# Altium footprint library PCB2.PcbLib: 38 footprints (part 3 of 3)
Each footprint in its own frame and in the unit in brackets; x right, y up, seen from the top. Pads: shape width x height; smd on the part's side, far side on the other; paste and mask are expansions set on the pad; w line width, h text height; cw(c..) or ccw(c..) is an arc to the next point about the centre after c.
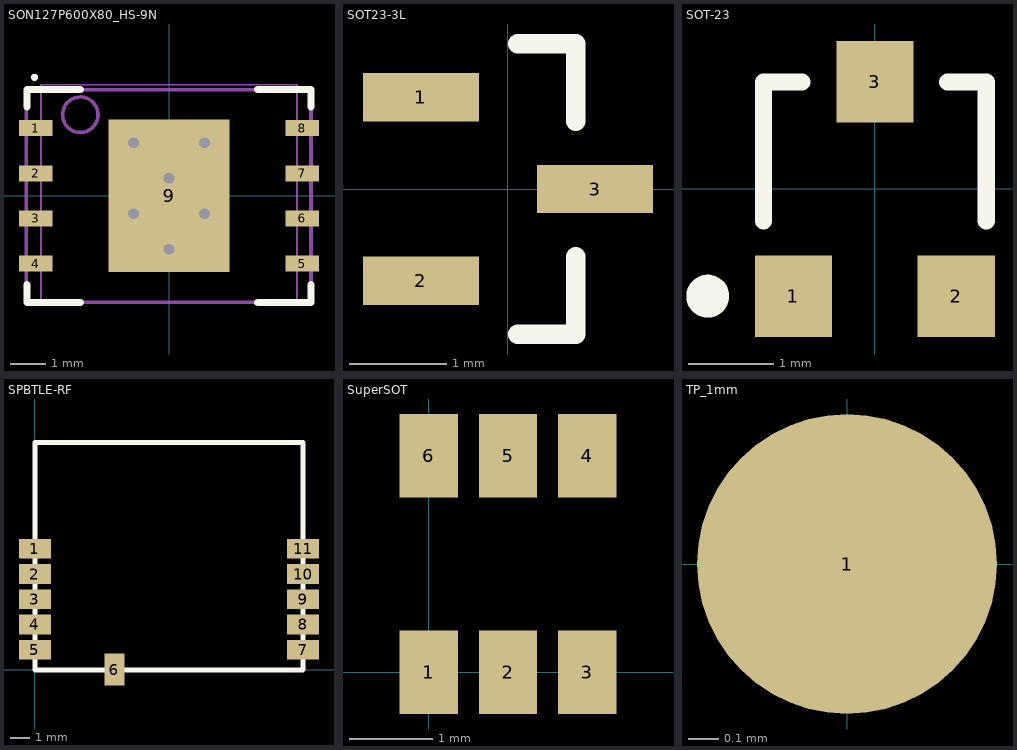
[diagram p2: the footprints below, top view; thin cyan lines are the x and y axes]

## SON127P600X80_HS-9N [mm]
pads (9):
  rect 0.95x0.45 smd: 1(-3.75,1.905) 2(-3.75,0.635) 3(-3.75,-0.635) 4(-3.75,-1.905) 5(3.75,-1.905) 6(3.75,-0.635) 7(3.75,0.635) 8(3.75,1.905)
  rect 3.4x4.3 smd paste-1.7: 9(0,0)
via -1,1.5 diameter 0.7 hole 0.3
via 1,1.5 diameter 0.7 hole 0.3
via 0,0.5 diameter 0.7 hole 0.3
via -1,-0.5 diameter 0.7 hole 0.3
via 1,-0.5 diameter 0.7 hole 0.3
via 0,-1.5 diameter 0.7 hole 0.3
Top Overlay:
  circle w0.1: c-3.789,3.339 r0.05
  lines w0.2: -4,-2.5 -4,-3 -2.5,-3 ; -4,2.5 -4,3 -2.5,3 ; 2.5,-3 4,-3 4,-2.5 ; 2.5,3 4,3 4,2.5
Top Paste:
  rectangle: -1.595,0.815 -0.665,2.045
  rectangle: -1.595,-0.615 -0.665,0.615
  rectangle: -1.595,-2.045 -0.665,-0.815
  rectangle: -0.465,0.815 0.465,2.045
  rectangle: -0.465,-0.615 0.465,0.615
  rectangle: -0.465,-2.045 0.465,-0.815
  rectangle: 0.665,0.815 1.595,2.045
  rectangle: 0.665,-0.615 1.595,0.615
  rectangle: 0.665,-2.045 1.595,-0.815
Mechanical 13:
  circle w0.1: c-2.5,2.287 r0.5
  lines w0.1: -4.024,-3.002 -4.024,2.993 -1.508,2.993 1.542,2.993 4,2.993 4,1.075 4,0.063 4,-0.063 4,-1.075 4,-3.002 -4.024,-3.002
Mechanical 15:
  lines w0.05: -3.605,3.127 -3.605,-3.002 3.605,-3.002 3.605,3.127 ; -3.598,3.127 -1.795,3.127 1.81,3.127 3.612,3.127
  lines w0.1: -0.5,0 0.5,0 ; 0,-0.5 0,0.5
3D body: height 0.25, standoff 0, extent -4.024,-3.002 4,3

## SOT23-3L [mm]
pads (3):
  rect 1.2x0.5 smd: 1(-0.9,0.95) 2(-0.9,-0.95) 3(0.9,0)
Top Overlay:
  lines w0.2: 0.1,-1.5 0.7,-1.5 0.7,-0.7 ; 0.1,1.5 0.7,1.5 0.7,0.7
3D body: height 1.1, standoff 0, extent -0.7,-1.5 0.7,1.5

## SOT-23 [mm]
pads (3):
  rect 0.9x0.95 smd: 1(-0.95,-1.25) 2(0.95,-1.25) 3(0,1.25)
Top Overlay:
  circle w0.25: c-1.95,-1.25 r0.125
  lines w0.2: -1.3,-0.375 -1.3,1.25 -0.85,1.25 ; 0.85,1.25 1.3,1.25 1.3,-0.375

## SPBTLE-RF [mm]
pads (11):
  rect 1.6x1 smd: 1(0,6.08) 2(0,4.81) 3(0,3.54) 4(0,2.27) 5(0,1) 7(13.5,1) 8(13.5,2.27) 9(13.5,3.54) 10(13.5,4.81) 11(13.5,6.08)
  rect 1x1.6 smd: 6(4,0)
Top Layer:
  lines w0.254: 13.473,-0.027 13.5,0
Top Overlay:
  lines w0.254: 0,-0.027 13.473,-0.027 ; 0,0 0,11.429 13.5,11.429 13.5,0

## SuperSOT [mm]
pads (6):
  rect 0.7x1 smd: 1(0,0) 2(0.95,0) 3(1.9,0) 4(1.9,2.6) 5(0.95,2.6) 6(0,2.6)
3D body: height 1, standoff 0.1, extent -0.75,0 2.625,2.5

## TP_1mm [mm]
pads (1):
  round 1 smd paste-1: 1(0,0)